# EAGLE library part LM2735 (library FaBo-Supply)
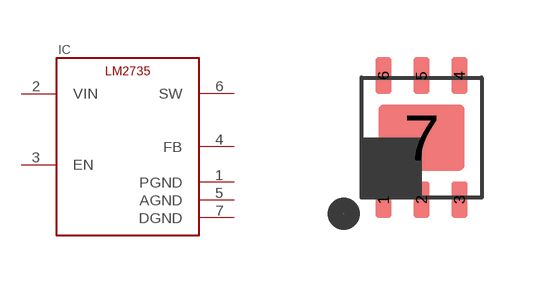
[diagram p8: symbol with the pads of WSON-6; footprint WSON-6]

Designator prefix IC

## LM2735YQSDX  [WSON-6]
1  PGND
2  VIN
3  EN
4  FB
5  AGND
6  SW
7  DGND

## Footprint WSON-6 (pad centres in mm)
smd 0.4 x 0.9: 1 -0.95,-1.55; 2 0,-1.55; 3 0.95,-1.55; 4 0.95,1.55; 5 0,1.55; 6 -0.95,1.55
smd 2.15 x 1.65: 7 0,0